# Altium schematic symbol library Wireless.SchLib: 5 symbols
Pins are listed as number, name and electrical type; pins without a type are passive.

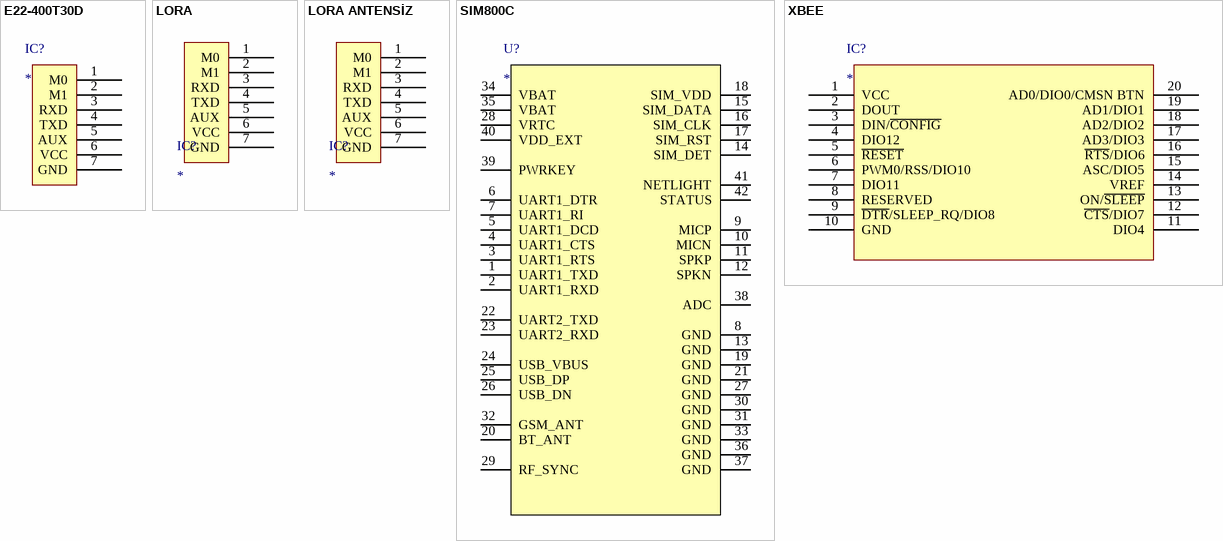
[diagram p0: symbols E22-400T30D to XBEE]

## E22-400T30D
designator IC?
footprint E22-400T30D
pins: 1 M0, 2 M1, 3 RXD, 4 TXD, 5 AUX, 6 VCC, 7 GND

## LORA
designator IC?
footprint LORA
pins: 1 M0, 2 M1, 3 RXD, 4 TXD, 5 AUX, 6 VCC, 7 GND

## LORA ANTENSİZ
designator IC?
footprint LORA ANTENSİZ
pins: 1 M0, 2 M1, 3 RXD, 4 TXD, 5 AUX, 6 VCC, 7 GND

## SIM800C
designator U?
GSM/Bluetooth; MP: SIM800C; Value: *; Price: None; Package: None; ComponentLink1Description: Robolink; ComponentLink1URL: https://www.robolinkmarket.com/sim800c-gsm-gprs-modulu
footprint LCC110P1570X1760X250-42N
pins: 1 UART1_TXD (power), 2 UART1_RXD (power), 3 UART1_RTS (power), 4 UART1_CTS (power), 5 UART1_DCD (power), 6 UART1_DTR (power), 7 UART1_RI (power), 8 GND (power), 9 MICP (power), 10 MICN (power), 11 SPKP (power), 12 SPKN (power), 13 GND (power), 14 SIM_DET (power), 15 SIM_DATA (power), 16 SIM_CLK (power), 17 SIM_RST (power), 18 SIM_VDD (power), 19 GND (power), 20 BT_ANT (power), 21 GND (power), 22 UART2_TXD (power), 23 UART2_RXD (power), 24 USB_VBUS (power), 25 USB_DP (power), 26 USB_DN (power), 27 GND (power), 28 VRTC (power), 29 RF_SYNC (power), 30 GND (power), 31 GND (power), 32 GSM_ANT (power), 33 GND (power), 34 VBAT (power), 35 VBAT (power), 36 GND (power), 37 GND (power), 38 ADC (power), 39 PWRKEY (power), 40 VDD_EXT (power), 41 NETLIGHT (power), 42 STATUS (power)

## XBEE
designator IC?
footprint XBee
pins: 1 VCC, 2 DOUT, 3 DIN/~{CONFIG}, 4 DIO12, 5 ~{RESET}, 6 PWM0/RSS/DIO10, 7 DIO11, 8 RESERVED, 9 ~{DTR}/SLEEP_RQ/DIO8, 10 GND, 11 DIO4, 12 ~{CTS}/DIO7, 13 ON/~{SLEEP}, 14 VREF, 15 ASC/DIO5, 16 ~{RTS}/DIO6, 17 AD3/DIO3, 18 AD2/DIO2, 19 AD1/DIO1, 20 AD0/DIO0/CMSN BTN